# Altium footprint library NC7SV00L6X.PcbLib: 2 footprints
Each footprint in its own frame and in the unit in brackets; x right, y up, seen from the top. Pads: shape width x height; smd on the part's side, far side on the other; paste and mask are expansions set on the pad; w line width, h text height; cw(c..) or ccw(c..) is an arc to the next point about the centre after c.
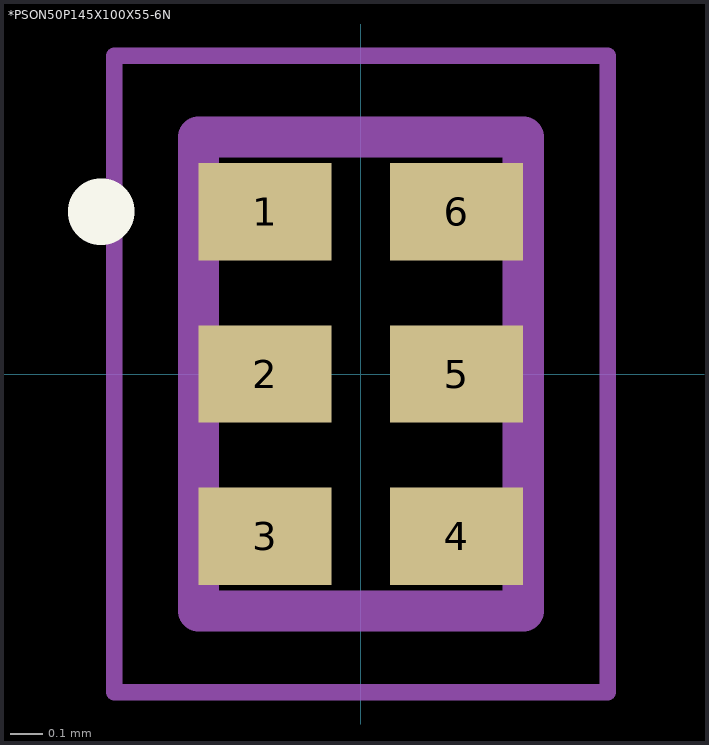
[diagram p0: the footprints below, top view; thin cyan lines are the x and y axes]

## *PSON50P145X100X55-6N [mm]
pads (6):
  rect 0.41x0.3 smd: 1(-0.295,0.5) 2(-0.295,0) 3(-0.295,-0.5) 4(0.295,-0.5) 5(0.295,0) 6(0.295,0.5)
Top Overlay:
  circle w0.2: c-0.8,0.5 r0.003
Mechanical 4:
  lines w0.127: -0.5,-0.73 -0.5,0.73 ; -0.5,-0.73 0.5,-0.73 ; -0.5,-0.73 -0.5,0.73 ; -0.5,-0.73 0.5,-0.73 ; -0.5,0.73 0.5,0.73 ; -0.5,0.73 0.5,0.73 ; 0.5,-0.73 0.5,0.73 ; 0.5,-0.73 0.5,0.73
Mechanical 16:
  lines w0.05: -0.76,-0.98 -0.76,0.98 0.76,0.98 0.76,-0.98 -0.76,-0.98

## PCBComponent_1 [mm]